# Altium footprint library Antena_RFID.PcbLib: 1 footprints
Each footprint in its own frame and in the unit in brackets; x right, y up, seen from the top. Pads: shape width x height; smd on the part's side, far side on the other; paste and mask are expansions set on the pad; w line width, h text height; cw(c..) or ccw(c..) is an arc to the next point about the centre after c.
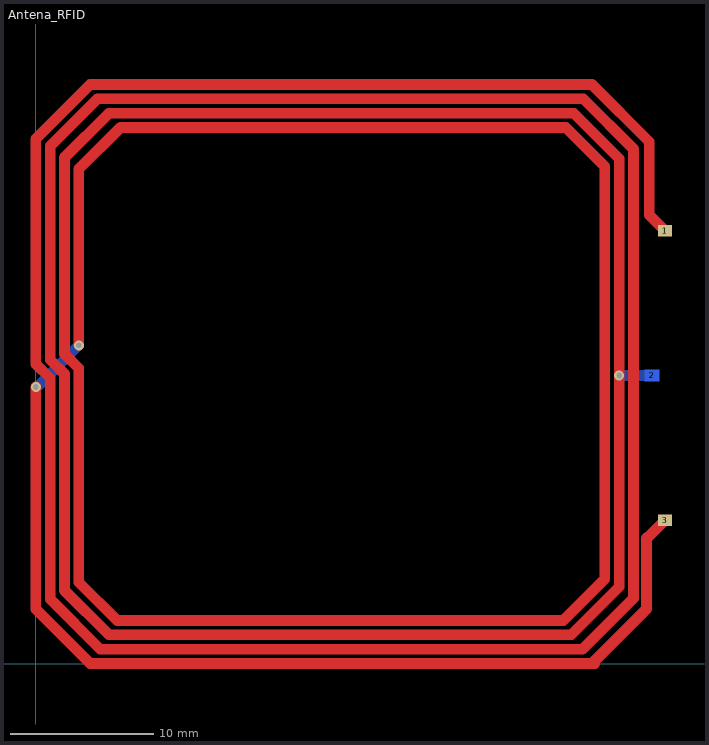
[diagram p0: the footprint, top view; thin cyan lines are the x and y axes]

## Antena_RFID [mm]
pads (3):
  rect 1x0.8 smd: 1(43.9,30.2) 3(43.9,10)
  rect 1x0.8 smd far side: 2(43,20.1)
via 3,22.2 diameter 0.7 hole 0.4
via 0,19.3 diameter 0.7 hole 0.4
via 40.7,20.1 diameter 0.7 hole 0.4
Top Layer:
  lines w0.75: 0,19.3 0,3.8 3.8,0 39,0 ; 3,22.2 3,34.5 5.9,37.4 36.975,37.4 39.7,34.675 39.7,30.8 39.7,9.6 39.7,5.9 36.8,3 5.675,3 3,5.675 3,20.6 2,21.6 2,21.9 2,35.3 5.1,38.4 37.525,38.4 40.7,35.225 40.7,5.8 40.7,5.35 37.35,2 5.1,2 2,5.1 2,19.5 2,19.9 2,20.2 1,21.2 1,23.1 1,36.1 4.3,39.4 38.2,39.4 41.7,35.9 41.7,4.55 38.15,1 5.1,1 4.5,1 1,4.5 1,17.6 1,19.9 0,20.9 0,22.7 0,36.6 3.8,40.4 38.8,40.4 42.8,36.4 42.8,31.3 43.9,30.2 ; 38.8,0 42.6,3.8 42.6,8.7 cw(c42.7,8.7) 42.7,8.8 43.9,10
Bottom Layer:
  lines w0.254: 0,19.3 0.1,19.3
  lines w0.75: 0.1,19.3 3,22.2 ; 40.7,20.1 43,20.1